# Altium footprint library PcbLib2.PcbLib: 21 footprints (part 1 of 2)
Each footprint in its own frame and in the unit in brackets; x right, y up, seen from the top. Pads: shape width x height; smd on the part's side, far side on the other; paste and mask are expansions set on the pad; w line width, h text height; cw(c..) or ccw(c..) is an arc to the next point about the centre after c.
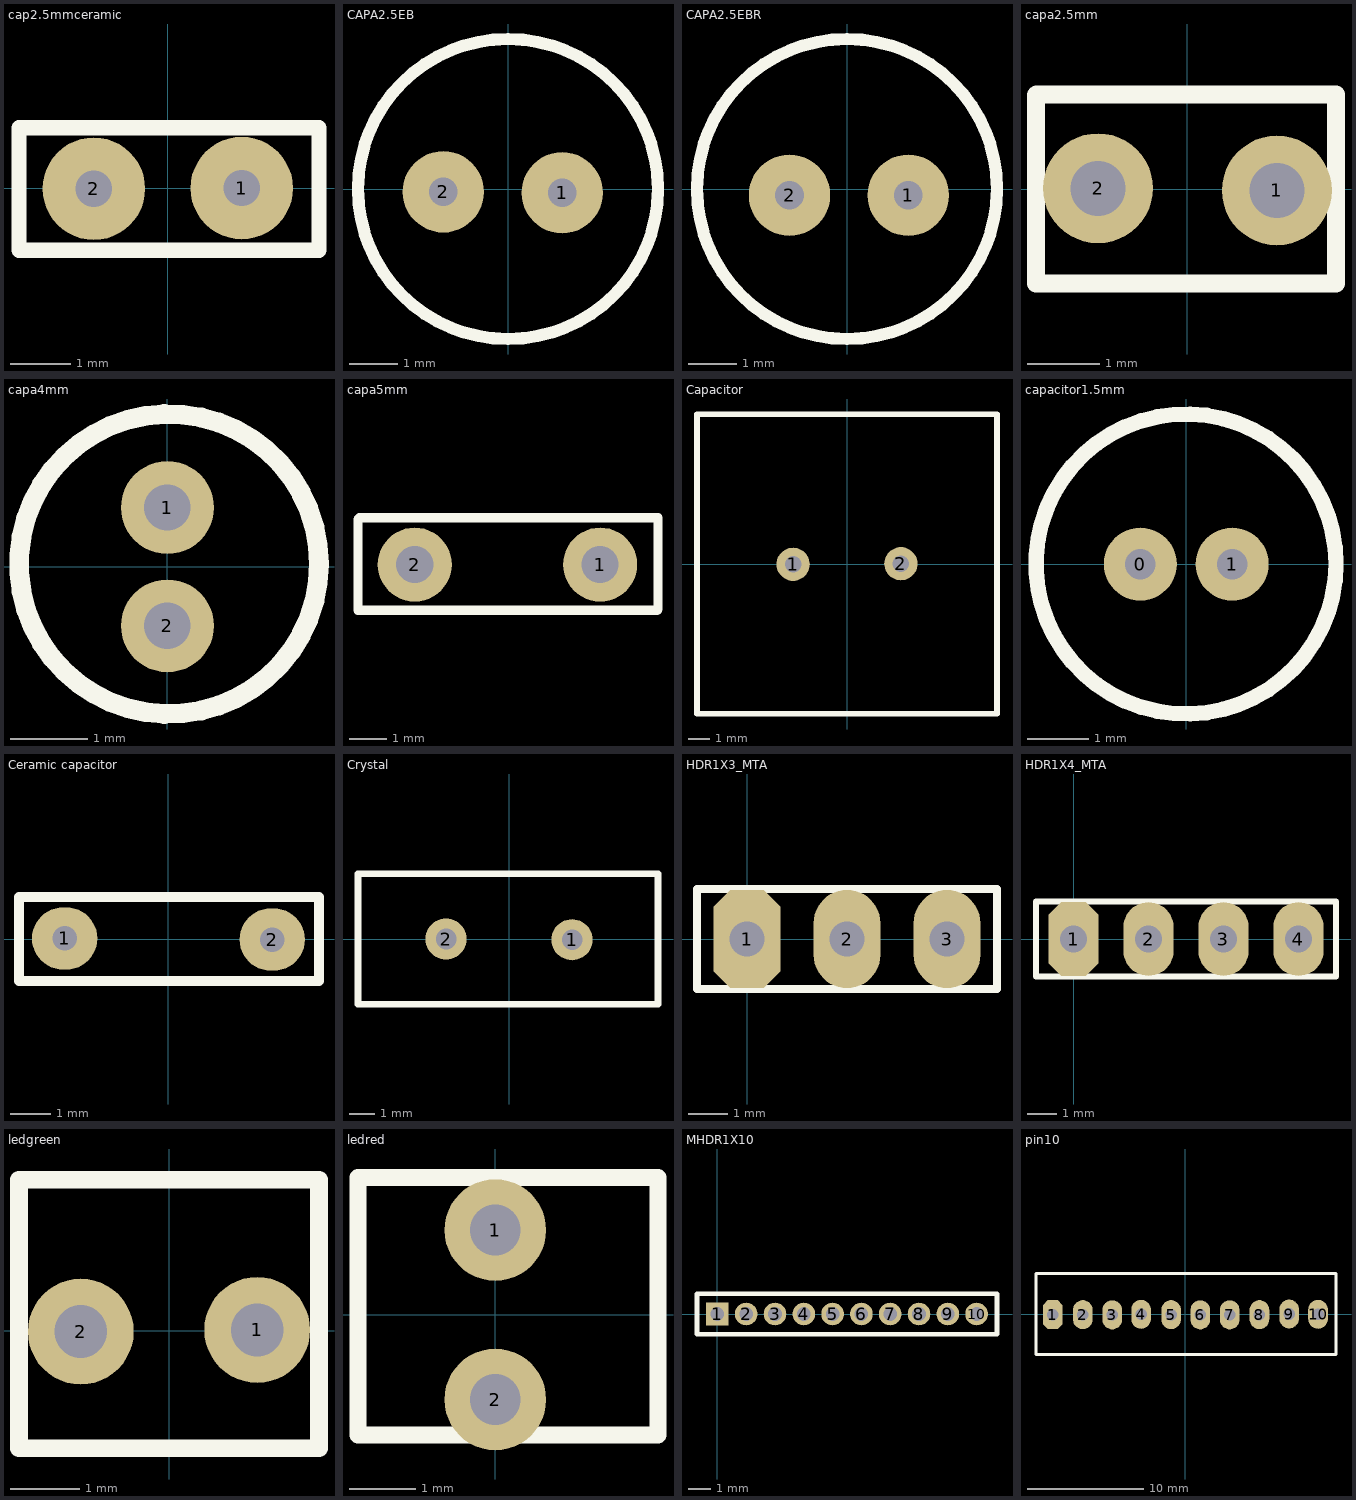
[diagram p0: the footprints below, top view; thin cyan lines are the x and y axes]

## cap2.5mmceramic [mm]
pads (2):
  round 1.7 hole 0.6: 1(1.225,0.005) 2(-1.225,-0.005)
Top Overlay:
  lines w0.254: -2.465,-1.025 -2.465,1.005 2.505,1.005 2.505,-1.025 -2.465,-1.025
3D body: height 5.45, standoff -3.5, extent -2.434,-1.025 2.484,0.975

## CAPA2.5EB [mm]
pads (2):
  round 1.7 hole 0.6: 1(1.12,-0.08) 2(-1.36,-0.06)
Top Overlay:
  circle w0.254: c-0.01,0 r3.131
3D body: height 2.7, standoff -12.5, extent -3.282,-3.22 3.02,3.08

## CAPA2.5EBR [mm]
pads (2):
  round 1.7 hole 0.6: 1(1.27,-0.13) 2(-1.21,-0.13)
Top Overlay:
  circle w0.254: c-0.01,0 r3.131
3D body: height 2.5, standoff -11.7, extent -3.13,-3.274 3.172,3.013

## capa2.5mm [mil]
pads (2):
  round 60 hole 30: 1(48.82,-0.59) 2(-48.82,0.59)
Top Overlay:
  lines w10: -82.68,-51.38 -82.68,51.38 -82.28,51.77 81.1,51.77 81.1,-51.38 -82.68,-51.38
3D body: height 224.41, standoff -110.24, extent -78.35,-48.23 79.13,50.2

## capa4mm [mm]
pads (2):
  round 1.2 hole 0.6: 1(0,0.765) 2(0,-0.765)
Top Overlay:
  circle w0.254: c0.02,0.035 r1.939
3D body: height 15.5, standoff -8.5, extent -2,-1.985 2,2.015

## capa5mm [mm]
pads (2):
  round 2 hole 1: 1(21.99,130.91) 2(16.99,130.91)
Top Overlay:
  lines w0.254: 15.46,129.68 15.46,132.13 15.5,132.17 23.55,132.17 23.55,129.7 23.53,129.68 15.46,129.68
3D body: height 1.57, standoff -11, extent 15.51,129.65 23.51,132.16

## Capacitor [mil]
pads (2):
  round 60 hole 30: 1(-97,-0.5) 2(97,0.5)
Top Overlay:
  lines w10: -270,-269.5 -270,269.5 270,269.5 270,-269.5 -270,-269.5
3D body: height 1078.74, standoff -1053.15, extent -259.17,-260.34 259.84,259.34

## capacitor1.5mm [mm]
pads (2):
  round 1.2 hole 0.5: 0(-0.755,0) 1(0.755,0)
Top Overlay:
  circle w0.254: c-0.004,0.002 r2.466
3D body: height 6.3, standoff -3.3, extent -2.004,-1.997 1.998,2.001

## Ceramic capacitor [mm]
pads (2):
  oval 1.6x1.524 hole 0.6: 1(-2.54,0.013) 2(2.54,-0.013)
Top Overlay:
  lines w0.254: -3.658,-1.029 3.683,-1.029 3.683,1.029 -3.658,1.029 -3.658,-1.029
3D body: height 7.5, standoff -1, extent -3.498,-0.835 3.5,0.861

## Crystal [mm]
pads (2):
  round 1.6 hole 0.8: 1(2.454,-0.014) 2(-2.454,0.014)
Top Overlay:
  lines w0.254: -5.883,-2.526 5.801,-2.526 5.801,2.554 -5.883,2.554 -5.883,-2.526
3D body: height 3.8, standoff -1.79, extent -5.684,-2.311 5.653,2.339

## HDR1X3_MTA [mm] "Connector; Header; 3 Position"
pads (3):
  oct 1.7x2.5 hole 0.9: 1(0,0)
  oval 1.7x2.5 hole 0.9: 2(2.54,0) 3(5.08,0)
Top Overlay:
  lines w0.2: -1.27,-1.27 -1.27,1.27 6.35,1.27 6.35,-1.27 -1.27,-1.27
3D body: height 2.86, standoff -10.73, extent -1.27,-2.66 6.35,3.182

## HDR1X4_MTA [mm] "Connector; Header; 4 Position"
pads (4):
  oct 1.7x2.5 hole 0.9: 1(0,0)
  oval 1.7x2.5 hole 0.9: 2(2.54,0) 3(5.08,0) 4(7.62,0)
Top Overlay:
  lines w0.2: -1.27,-1.27 8.89,-1.27 8.89,1.27 -1.27,1.27 -1.27,-1.27
3D body: height 10.03, standoff -3.56, extent -1.26,-2.66 8.9,3.182

## ledgreen [mil]
pads (2):
  round 60 hole 30: 1(50,0.5) 2(-50,-0.5)
Top Overlay:
  lines w10: -85,-66.5 -85,85.5 85,85.5 85,-66.5 -85,-66.5
3D body: height 212, standoff -125, extent -78.43,-59 78.43,78.5

## ledred [mil]
pads (2):
  round 60 hole 30: 1(0,50) 2(0,-50)
Top Overlay:
  lines w10: -81,-71 96,-71 96,81 -81,81 -81,-71
3D body: height 255.91, standoff -78.74, extent -74.61,-63.81 75,73.81

## MHDR1X10 [mm] "Connector; Header; 10 Position"
pads (10):
  rect 1x1 hole 0.6: 1(0,0)
  round 1 hole 0.6: 2(1.27,0) 3(2.54,0) 4(3.81,0) 5(5.08,0) 6(6.35,0) 7(7.62,0) 8(8.89,0) 9(10.16,0) 10(11.43,0)
Top Overlay:
  lines w0.2: -0.9,-0.9 12.33,-0.9 12.33,0.9 -0.9,0.9 -0.9,-0.9

## pin10 [mm]
pads (10):
  oct 1.7x2.5 hole 1: 1(-11.443,-0.013)
  oval 1.7x2.5 hole 1: 2(-8.852,-0.013) 3(-6.312,-0.038) 4(-3.823,0.013) 5(-1.232,-0.013) 6(1.283,-0.038) 7(3.823,-0.038) 8(6.388,-0.013) 9(8.954,0.038) 10(11.443,0.013)
Top Overlay:
  lines w0.254: -12.89,-3.442 -12.89,3.518 12.992,3.518 12.992,-3.442 -12.89,-3.442
3D body: height 3.1, standoff -10.49, extent -12.662,-3.289 12.738,3.188